# Altium integrated library TI Power Management Linear Regulator Single Channel LDO (400-7500mA).IntLib: 1408 symbols (part 48 of 60)
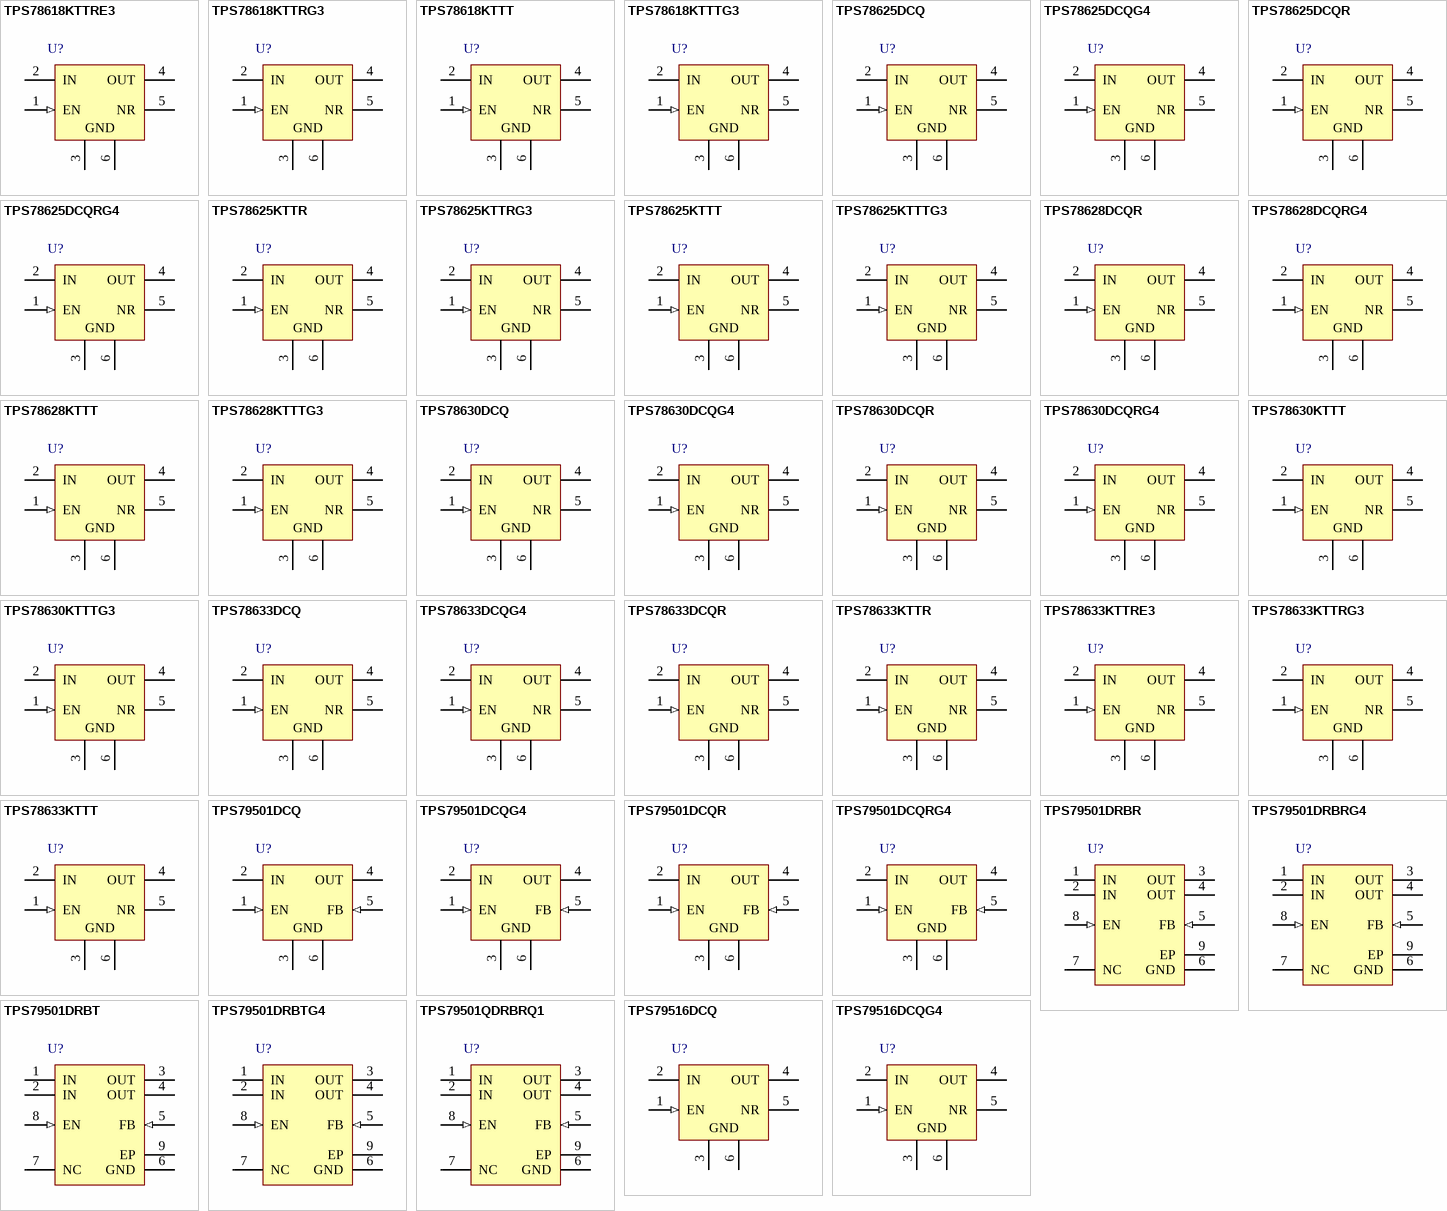
[diagram p97: symbols TPS78618KTTRE3 to TPS79516DCQG4]

## TPS78633KTTR
designator U?
Single Output High PSRR LDO, 1.5 A, Fixed 3.3 V Output, 2.7 to 5.5 V Input, 5-pin DDPAK (KTT), -40 to 125 degC, Green (RoHS & no Sb/Br); Manufacturer: Texas Instruments; PartNumber: TPS78633KTTR; Accuracy(%): 3; Fixed Output Options(V): 3.3; Iout(Max)(A): 1.5; Iq(Typ)(mA): 0.02; SubFamily: Single Channel LDO; Vdo(Typ)(mV): 340; Vin(Max)(V): 5.5; Vin(Min)(V): 2.7; DatasheetVersion: SLVS389L; PackageVersion: 4200577-3/F; PackageReference: KTT5; PackageDescription: 3-Pin Plastic Flange Mount, Body 10.16 x 10.34 mm, Pitch 1.7 mm; Supplier 1: Digi-Key; Supplier Part Number 1: TPS78633KTTR-ND; Supplier 2: Newark; Supplier Part Number 2: 87H3011; Supplier 3: Mouser; Supplier Part Number 3: 595-TPS78633KTTR; Eco-Plan: Green (RoHS & no Sb/Br); Vout Adj(Max)(V): 3.3; Vout Adj(Min)(V): 3.3; Mounting Technology: Surface Mount; Code_JEDEC: TO-263; ComponentLink1Description: Manufacturer URL; ComponentLink1URL: http://www.ti.com/; ComponentLink2Description: Datasheet; ComponentLink2URL: http://www.ti.com/general/docs/lit/getliterature.tsp?genericPartNumber=TPS78633&fileType=pdf; ComponentLink3Description: Package Specification; ComponentLink3URL: http://www.ti.com/litv/pdf/mpsf007e
footprint TI-KTT5_N (DPAK, 5-Leads, Body 10.16x8.925mm, Pitch 1.7mm, IPC Medium Density)
footprint TI-KTT5_L (DPAK, 5-Leads, Body 10.16x8.925mm, Pitch 1.7mm, IPC High Density)
footprint TI-KTT5_M (DPAK, 5-Leads, Body 10.16x8.925mm, Pitch 1.7mm, IPC Low Density)
pins: 1 EN (in) "The EN terminal is an input that enables or shuts down the device. When EN is a logic high, the device is enabled. When the device is a logic low, the device is in shutdown mode.", 2 IN (power) "Unregulated input to the device.", 3 GND (power) "Regulator ground", 4 OUT (power) "Regulator output", 5 NR "Connecting an external capacitor to this pin bypasses noise generated by the internal bandgap, which improves power-supply rejection and reduces output noise.", 6 GND (power) "Regulator ground"

## TPS78633KTTRE3
designator U?
Single Output High PSRR LDO, 1.5 A, Fixed 3.3 V Output, 2.7 to 5.5 V Input, 5-pin DDPAK (KTT), -40 to 125 degC, Green (RoHS & no Sb/Br); Manufacturer: Texas Instruments; PartNumber: TPS78633KTTRE3; Accuracy(%): 3; Fixed Output Options(V): 3.3; Iout(Max)(A): 1.5; Iq(Typ)(mA): 0.02; SubFamily: Single Channel LDO; Vdo(Typ)(mV): 340; Vin(Max)(V): 5.5; Vin(Min)(V): 2.7; DatasheetVersion: SLVS389L; PackageVersion: 4200577-3/F; PackageReference: KTT5; PackageDescription: 3-Pin Plastic Flange Mount, Body 10.16 x 10.34 mm, Pitch 1.7 mm; Supplier 1: Digi-Key; Supplier Part Number 1: TPS78633KTTRE3-ND; Supplier 2: Newark; Supplier Part Number 2: 24K6200; Supplier 3: Mouser; Supplier Part Number 3: 595-TPS78633KTTRE3; Eco-Plan: Green (RoHS & no Sb/Br); Vout Adj(Max)(V): 3.3; Vout Adj(Min)(V): 3.3; Mounting Technology: Surface Mount; Code_JEDEC: TO-263; ComponentLink1Description: Manufacturer URL; ComponentLink1URL: http://www.ti.com/; ComponentLink2Description: Datasheet; ComponentLink2URL: http://www.ti.com/general/docs/lit/getliterature.tsp?genericPartNumber=TPS78633&fileType=pdf; ComponentLink3Description: Package Specification; ComponentLink3URL: http://www.ti.com/litv/pdf/mpsf007e
footprint TI-KTT5_N (DPAK, 5-Leads, Body 10.16x8.925mm, Pitch 1.7mm, IPC Medium Density)
footprint TI-KTT5_L (DPAK, 5-Leads, Body 10.16x8.925mm, Pitch 1.7mm, IPC High Density)
footprint TI-KTT5_M (DPAK, 5-Leads, Body 10.16x8.925mm, Pitch 1.7mm, IPC Low Density)
pins: 1 EN (in) "The EN terminal is an input that enables or shuts down the device. When EN is a logic high, the device is enabled. When the device is a logic low, the device is in shutdown mode.", 2 IN (power) "Unregulated input to the device.", 3 GND (power) "Regulator ground", 4 OUT (power) "Regulator output", 5 NR "Connecting an external capacitor to this pin bypasses noise generated by the internal bandgap, which improves power-supply rejection and reduces output noise.", 6 GND (power) "Regulator ground"

## TPS78633KTTRG3
designator U?
Single Output High PSRR LDO, 1.5 A, Fixed 3.3 V Output, 2.7 to 5.5 V Input, 5-pin DDPAK (KTT), -40 to 125 degC, Green (RoHS & no Sb/Br); Manufacturer: Texas Instruments; PartNumber: TPS78633KTTRG3; Accuracy(%): 3; Fixed Output Options(V): 3.3; Iout(Max)(A): 1.5; Iq(Typ)(mA): 0.02; SubFamily: Single Channel LDO; Vdo(Typ)(mV): 340; Vin(Max)(V): 5.5; Vin(Min)(V): 2.7; DatasheetVersion: SLVS389L; PackageVersion: 4200577-3/F; PackageReference: KTT5; PackageDescription: 3-Pin Plastic Flange Mount, Body 10.16 x 10.34 mm, Pitch 1.7 mm; Supplier 1: Digi-Key; Supplier Part Number 1: TPS78633KTTRG3-ND; Supplier 2: Newark; Supplier Part Number 2: 24K6201; Supplier 3: Mouser; Supplier Part Number 3: 595-TPS78633KTTRG3; Eco-Plan: Green (RoHS & no Sb/Br); Vout Adj(Max)(V): 3.3; Vout Adj(Min)(V): 3.3; Mounting Technology: Surface Mount; Code_JEDEC: TO-263; ComponentLink1Description: Manufacturer URL; ComponentLink1URL: http://www.ti.com/; ComponentLink2Description: Datasheet; ComponentLink2URL: http://www.ti.com/general/docs/lit/getliterature.tsp?genericPartNumber=TPS78633&fileType=pdf; ComponentLink3Description: Package Specification; ComponentLink3URL: http://www.ti.com/litv/pdf/mpsf007e
footprint TI-KTT5_N (DPAK, 5-Leads, Body 10.16x8.925mm, Pitch 1.7mm, IPC Medium Density)
footprint TI-KTT5_L (DPAK, 5-Leads, Body 10.16x8.925mm, Pitch 1.7mm, IPC High Density)
footprint TI-KTT5_M (DPAK, 5-Leads, Body 10.16x8.925mm, Pitch 1.7mm, IPC Low Density)
pins: 1 EN (in) "The EN terminal is an input that enables or shuts down the device. When EN is a logic high, the device is enabled. When the device is a logic low, the device is in shutdown mode.", 2 IN (power) "Unregulated input to the device.", 3 GND (power) "Regulator ground", 4 OUT (power) "Regulator output", 5 NR "Connecting an external capacitor to this pin bypasses noise generated by the internal bandgap, which improves power-supply rejection and reduces output noise.", 6 GND (power) "Regulator ground"

## TPS78633KTTT
designator U?
Single Output High PSRR LDO, 1.5 A, Fixed 3.3 V Output, 2.7 to 5.5 V Input, 5-pin DDPAK (KTT), -40 to 125 degC, Green (RoHS & no Sb/Br); Manufacturer: Texas Instruments; PartNumber: TPS78633KTTT; Accuracy(%): 3; Fixed Output Options(V): 3.3; Iout(Max)(A): 1.5; Iq(Typ)(mA): 0.02; SubFamily: Single Channel LDO; Vdo(Typ)(mV): 340; Vin(Max)(V): 5.5; Vin(Min)(V): 2.7; DatasheetVersion: SLVS389L; PackageVersion: 4200577-3/F; PackageReference: KTT5; PackageDescription: 3-Pin Plastic Flange Mount, Body 10.16 x 10.34 mm, Pitch 1.7 mm; Supplier 1: Digi-Key; Supplier Part Number 1: 296-14426-2-ND; Supplier 2: Digi-Key; Supplier Part Number 2: 296-14426-1-ND; Supplier 3: Digi-Key; Supplier Part Number 3: 296-14426-6-ND; Supplier 4: Farnell; Supplier Part Number 4: 1470472RL; Supplier 5: Farnell; Supplier Part Number 5: 1470472; Supplier 6: Newark; Supplier Part Number 6: 32H6585; Supplier 7: Mouser; Supplier Part Number 7: 595-TPS78633KTTT; Eco-Plan: Green (RoHS & no Sb/Br); Vout Adj(Max)(V): 3.3; Vout Adj(Min)(V): 3.3; Mounting Technology: Surface Mount; Code_JEDEC: TO-263; ComponentLink1Description: Manufacturer URL; ComponentLink1URL: http://www.ti.com/; ComponentLink2Description: Datasheet; ComponentLink2URL: http://www.ti.com/general/docs/lit/getliterature.tsp?genericPartNumber=TPS78633&fileType=pdf; ComponentLink3Description: Package Specification; ComponentLink3URL: http://www.ti.com/litv/pdf/mpsf007e
footprint TI-KTT5_N (DPAK, 5-Leads, Body 10.16x8.925mm, Pitch 1.7mm, IPC Medium Density)
footprint TI-KTT5_L (DPAK, 5-Leads, Body 10.16x8.925mm, Pitch 1.7mm, IPC High Density)
footprint TI-KTT5_M (DPAK, 5-Leads, Body 10.16x8.925mm, Pitch 1.7mm, IPC Low Density)
pins: 1 EN (in) "The EN terminal is an input that enables or shuts down the device. When EN is a logic high, the device is enabled. When the device is a logic low, the device is in shutdown mode.", 2 IN (power) "Unregulated input to the device.", 3 GND (power) "Regulator ground", 4 OUT (power) "Regulator output", 5 NR "Connecting an external capacitor to this pin bypasses noise generated by the internal bandgap, which improves power-supply rejection and reduces output noise.", 6 GND (power) "Regulator ground"

## TPS79501DCQ
designator U?
Single Output High PSRR LDO, 500 mA, Adjustable 1.2 to 5.5 V Output, 2.7 to 5.5 V Input, 6-pin SOT-223 (DCQ), -40 to 125 degC, Green (RoHS & no Sb/Br); Manufacturer: Texas Instruments; PartNumber: TPS79501DCQ; Accuracy(%): 2; Iout(Max)(A): 0.5; Iq(Typ)(mA): 0.26; Rating: Catalog; SubFamily: Single Channel LDO; Vdo(Typ)(mV): 110; Vin(Max)(V): 5.5; Vin(Min)(V): 2.7; Vout Adj(Min)(V): 1.2; DatasheetVersion: SLVS350H; PackageVersion: 4202109/D; PackageReference: DCQ6; PackageDescription: 6-Pin Plastic Small Outline, Body 3.5 x 6.5 mm, Pitch 1.27 mm; Supplier 1: Digi-Key; Supplier Part Number 1: 296-27102-5-ND; Supplier 2: Newark; Supplier Part Number 2: 02E7260; Supplier 3: Mouser; Supplier Part Number 3: 595-TPS79501DCQ; Eco-Plan: Green (RoHS & no Sb/Br); Vout Adj(Max)(V): 5.5; Mounting Technology: Surface Mount; ComponentLink1Description: Manufacturer URL; ComponentLink1URL: http://www.ti.com/; ComponentLink2Description: Datasheet; ComponentLink2URL: http://www.ti.com/general/docs/lit/getliterature.tsp?genericPartNumber=TPS79501&fileType=pdf; ComponentLink3Description: Package Specification; ComponentLink3URL: http://www.ti.com/litv/pdf/mpds098c
footprint TI-DCQ6_N (SOT223, 6-Leads, Body 6.5x3.5mm, Pitch 1.27mm, IPC Medium Density)
footprint TI-DCQ6_L (SOT223, 6-Leads, Body 6.5x3.5mm, Pitch 1.27mm, IPC High Density)
footprint TI-DCQ6_M (SOT223, 6-Leads, Body 6.5x3.5mm, Pitch 1.27mm, IPC Low Density)
pins: 1 EN (in) "The EN terminal is an input that enables or shuts down the device. When EN is a logic high, the device is enabled. When the device is a logic low, the device is in shutdown mode.", 2 IN (power) "Unregulated input to the device.", 3 GND (power) "Regulator ground", 4 OUT (power) "Regulator output", 5 FB (in) "Feedback input voltage for the adjustable device.", 6 GND (power) "Regulator ground"

## TPS79501DCQG4
designator U?
Single Output High PSRR LDO, 500 mA, Adjustable 1.2 to 5.5 V Output, 2.7 to 5.5 V Input, 6-pin SOT-223 (DCQ), -40 to 125 degC; Manufacturer: Texas Instruments; PartNumber: TPS79501DCQG4; Accuracy(%): 2; Iout(Max)(A): 0.5; Iq(Typ)(mA): 0.26; Rating: Catalog; SubFamily: Single Channel LDO; Vdo(Typ)(mV): 110; Vin(Max)(V): 5.5; Vin(Min)(V): 2.7; Vout Adj(Min)(V): 1.2; DatasheetVersion: SLVS350H; PackageVersion: 4202109/D; PackageReference: DCQ6; PackageDescription: 6-Pin Plastic Small Outline, Body 3.5 x 6.5 mm, Pitch 1.27 mm; Supplier 1: Digi-Key; Supplier Part Number 1: TPS79501DCQG4-ND; Supplier 2: Farnell; Supplier Part Number 2: 1207353; Supplier 3: Newark; Supplier Part Number 3: 24M8559; Supplier 4: Newark; Supplier Part Number 4: 67K8689; Supplier 5: Mouser; Supplier Part Number 5: 595-TPS79501DCQG4; Vout Adj(Max)(V): 5.5; Mounting Technology: Surface Mount; ComponentLink1Description: Manufacturer URL; ComponentLink1URL: http://www.ti.com/; ComponentLink2Description: Datasheet; ComponentLink2URL: http://www.ti.com/general/docs/lit/getliterature.tsp?genericPartNumber=TPS79501&fileType=pdf; ComponentLink3Description: Package Specification; ComponentLink3URL: http://www.ti.com/litv/pdf/mpds098c
footprint TI-DCQ6_N (SOT223, 6-Leads, Body 6.5x3.5mm, Pitch 1.27mm, IPC Medium Density)
footprint TI-DCQ6_L (SOT223, 6-Leads, Body 6.5x3.5mm, Pitch 1.27mm, IPC High Density)
footprint TI-DCQ6_M (SOT223, 6-Leads, Body 6.5x3.5mm, Pitch 1.27mm, IPC Low Density)
pins: 1 EN (in) "The EN terminal is an input that enables or shuts down the device. When EN is a logic high, the device is enabled. When the device is a logic low, the device is in shutdown mode.", 2 IN (power) "Unregulated input to the device.", 3 GND (power) "Regulator ground", 4 OUT (power) "Regulator output", 5 FB (in) "Feedback input voltage for the adjustable device.", 6 GND (power) "Regulator ground"

## TPS79501DCQR
designator U?
Single Output High PSRR LDO, 500 mA, Adjustable 1.2 to 5.5 V Output, 2.7 to 5.5 V Input, 6-pin SOT-223 (DCQ), -40 to 125 degC, Green (RoHS & no Sb/Br); Manufacturer: Texas Instruments; PartNumber: TPS79501DCQR; Accuracy(%): 2; Iout(Max)(A): 0.5; Iq(Typ)(mA): 0.26; Rating: Catalog; SubFamily: Single Channel LDO; Vdo(Typ)(mV): 110; Vin(Max)(V): 5.5; Vin(Min)(V): 2.7; Vout Adj(Min)(V): 1.2; DatasheetVersion: SLVS350H; PackageVersion: 4202109/D; PackageReference: DCQ6; PackageDescription: 6-Pin Plastic Small Outline, Body 3.5 x 6.5 mm, Pitch 1.27 mm; Supplier 1: Digi-Key; Supplier Part Number 1: 296-13806-2-ND; Supplier 2: Digi-Key; Supplier Part Number 2: 296-13806-1-ND; Supplier 3: Digi-Key; Supplier Part Number 3: 296-13806-6-ND; Supplier 4: Newark; Supplier Part Number 4: 02E7261; Supplier 5: Mouser; Supplier Part Number 5: 595-TPS79501DCQR; Eco-Plan: Green (RoHS & no Sb/Br); Vout Adj(Max)(V): 5.5; Mounting Technology: Surface Mount; ComponentLink1Description: Manufacturer URL; ComponentLink1URL: http://www.ti.com/; ComponentLink2Description: Datasheet; ComponentLink2URL: http://www.ti.com/general/docs/lit/getliterature.tsp?genericPartNumber=TPS79501&fileType=pdf; ComponentLink3Description: Package Specification; ComponentLink3URL: http://www.ti.com/litv/pdf/mpds098c
footprint TI-DCQ6_N (SOT223, 6-Leads, Body 6.5x3.5mm, Pitch 1.27mm, IPC Medium Density)
footprint TI-DCQ6_L (SOT223, 6-Leads, Body 6.5x3.5mm, Pitch 1.27mm, IPC High Density)
footprint TI-DCQ6_M (SOT223, 6-Leads, Body 6.5x3.5mm, Pitch 1.27mm, IPC Low Density)
pins: 1 EN (in) "The EN terminal is an input that enables or shuts down the device. When EN is a logic high, the device is enabled. When the device is a logic low, the device is in shutdown mode.", 2 IN (power) "Unregulated input to the device.", 3 GND (power) "Regulator ground", 4 OUT (power) "Regulator output", 5 FB (in) "Feedback input voltage for the adjustable device.", 6 GND (power) "Regulator ground"

## TPS79501DCQRG4
designator U?
Single Output High PSRR LDO, 500 mA, Adjustable 1.2 to 5.5 V Output, 2.7 to 5.5 V Input, 6-pin SOT-223 (DCQ), -40 to 125 degC; Manufacturer: Texas Instruments; PartNumber: TPS79501DCQRG4; Accuracy(%): 2; Iout(Max)(A): 0.5; Iq(Typ)(mA): 0.26; Rating: Catalog; SubFamily: Single Channel LDO; Vdo(Typ)(mV): 110; Vin(Max)(V): 5.5; Vin(Min)(V): 2.7; Vout Adj(Min)(V): 1.2; DatasheetVersion: SLVS350H; PackageVersion: 4202109/D; PackageReference: DCQ6; PackageDescription: 6-Pin Plastic Small Outline, Body 3.5 x 6.5 mm, Pitch 1.27 mm; Supplier 1: Digi-Key; Supplier Part Number 1: TPS79501DCQRG4-ND; Supplier 2: Newark; Supplier Part Number 2: 24K6219; Supplier 3: Mouser; Supplier Part Number 3: 595-TPS79501DCQRG4; Vout Adj(Max)(V): 5.5; Mounting Technology: Surface Mount; ComponentLink1Description: Manufacturer URL; ComponentLink1URL: http://www.ti.com/; ComponentLink2Description: Datasheet; ComponentLink2URL: http://www.ti.com/general/docs/lit/getliterature.tsp?genericPartNumber=TPS79501&fileType=pdf; ComponentLink3Description: Package Specification; ComponentLink3URL: http://www.ti.com/litv/pdf/mpds098c
footprint TI-DCQ6_N (SOT223, 6-Leads, Body 6.5x3.5mm, Pitch 1.27mm, IPC Medium Density)
footprint TI-DCQ6_L (SOT223, 6-Leads, Body 6.5x3.5mm, Pitch 1.27mm, IPC High Density)
footprint TI-DCQ6_M (SOT223, 6-Leads, Body 6.5x3.5mm, Pitch 1.27mm, IPC Low Density)
pins: 1 EN (in) "The EN terminal is an input that enables or shuts down the device. When EN is a logic high, the device is enabled. When the device is a logic low, the device is in shutdown mode.", 2 IN (power) "Unregulated input to the device.", 3 GND (power) "Regulator ground", 4 OUT (power) "Regulator output", 5 FB (in) "Feedback input voltage for the adjustable device.", 6 GND (power) "Regulator ground"

## TPS79501DRBR
designator U?
Single Output High PSRR LDO, 500 mA, Adjustable 1.2 to 5.5 V Output, 2.7 to 5.5 V Input, 8-pin SON (DRB), -40 to 125 degC, Green (RoHS & no Sb/Br); Manufacturer: Texas Instruments; PartNumber: TPS79501DRBR; Accuracy(%): 2; Iout(Max)(A): 0.5; Iq(Typ)(mA): 0.26; Rating: Catalog; SubFamily: Single Channel LDO; Vdo(Typ)(mV): 110; Vin(Max)(V): 5.5; Vin(Min)(V): 2.7; Vout Adj(Min)(V): 1.2; DatasheetVersion: SLVS350H; PackageVersion: 4203482-2/K; PackageReference: DRB8-2400X1650TP; PackageDescription: 8-Pin Plastic Small Outline, Body 3 x 3 mm, Pitch 0.65 mm; Supplier 1: Digi-Key; Supplier Part Number 1: 296-20792-2-ND; Supplier 2: Digi-Key; Supplier Part Number 2: 296-20792-1-ND; Supplier 3: Digi-Key; Supplier Part Number 3: 296-20792-6-ND; Supplier 4: Newark; Supplier Part Number 4: 18M3242; Supplier 5: Mouser; Supplier Part Number 5: 595-TPS79501DRBR; Eco-Plan: Green (RoHS & no Sb/Br); Vout Adj(Max)(V): 5.5; Mounting Technology: Surface Mount; ComponentLink1Description: Manufacturer URL; ComponentLink1URL: http://www.ti.com/; ComponentLink2Description: Datasheet; ComponentLink2URL: http://www.ti.com/general/docs/lit/getliterature.tsp?genericPartNumber=TPS79501&fileType=pdf; ComponentLink3Description: Package Specification; ComponentLink3URL: http://www.ti.com/litv/pdf/mpds118h
footprint TI-DRB8-2400X1650TP_V (SON, 8-Leads, Body 3x3mm, Pitch 0.65mm, Thermal Pad 2.4x1.65mm)
pins: 1 IN (power) "Unregulated input to the device", 2 IN (power) "Unregulated input to the device", 3 OUT (power) "Regulator output.", 4 OUT (power) "Regulator output.", 5 FB (in) "Feedback input voltage for the adjustable device.", 6 GND (power) "Regulator ground", 7 NC "Not connected", 8 EN (in) "Driving the enable pin (EN) high turns on the regulator. Driving this pin low puts the regulator into shutdown mode. EN can be connected to IN if not used.", 9 EP "Exposed Thermal Pad"

## TPS79501DRBRG4
designator U?
Single Output High PSRR LDO, 500 mA, Adjustable 1.2 to 5.5 V Output, 2.7 to 5.5 V Input, 8-pin SON (DRB), -40 to 125 degC, Green (RoHS & no Sb/Br); Manufacturer: Texas Instruments; PartNumber: TPS79501DRBRG4; Accuracy(%): 2; Iout(Max)(A): 0.5; Iq(Typ)(mA): 0.26; Rating: Catalog; SubFamily: Single Channel LDO; Vdo(Typ)(mV): 110; Vin(Max)(V): 5.5; Vin(Min)(V): 2.7; Vout Adj(Min)(V): 1.2; DatasheetVersion: SLVS350H; PackageVersion: 4203482-2/K; PackageReference: DRB8-2400X1650TP; PackageDescription: 8-Pin Plastic Small Outline, Body 3 x 3 mm, Pitch 0.65 mm; Supplier 1: Digi-Key; Supplier Part Number 1: TPS79501DRBRG4-ND; Supplier 2: Newark; Supplier Part Number 2: 20M5907; Supplier 3: Mouser; Supplier Part Number 3: 595-TPS79501DRBRG4; Eco-Plan: Green (RoHS & no Sb/Br); Vout Adj(Max)(V): 5.5; Mounting Technology: Surface Mount; ComponentLink1Description: Manufacturer URL; ComponentLink1URL: http://www.ti.com/; ComponentLink2Description: Datasheet; ComponentLink2URL: http://www.ti.com/general/docs/lit/getliterature.tsp?genericPartNumber=TPS79501&fileType=pdf; ComponentLink3Description: Package Specification; ComponentLink3URL: http://www.ti.com/litv/pdf/mpds118h
footprint TI-DRB8-2400X1650TP_V (SON, 8-Leads, Body 3x3mm, Pitch 0.65mm, Thermal Pad 2.4x1.65mm)
pins: 1 IN (power) "Unregulated input to the device", 2 IN (power) "Unregulated input to the device", 3 OUT (power) "Regulator output.", 4 OUT (power) "Regulator output.", 5 FB (in) "Feedback input voltage for the adjustable device.", 6 GND (power) "Regulator ground", 7 NC "Not connected", 8 EN (in) "Driving the enable pin (EN) high turns on the regulator. Driving this pin low puts the regulator into shutdown mode. EN can be connected to IN if not used.", 9 EP "Exposed Thermal Pad"

## TPS79501DRBT
designator U?
Single Output High PSRR LDO, 500 mA, Adjustable 1.2 to 5.5 V Output, 2.7 to 5.5 V Input, 8-pin SON (DRB), -40 to 125 degC, Green (RoHS & no Sb/Br); Manufacturer: Texas Instruments; PartNumber: TPS79501DRBT; Accuracy(%): 2; Iout(Max)(A): 0.5; Iq(Typ)(mA): 0.26; Rating: Catalog; SubFamily: Single Channel LDO; Vdo(Typ)(mV): 110; Vin(Max)(V): 5.5; Vin(Min)(V): 2.7; Vout Adj(Min)(V): 1.2; DatasheetVersion: SLVS350H; PackageVersion: 4203482-2/K; PackageReference: DRB8-2400X1650TP; PackageDescription: 8-Pin Plastic Small Outline, Body 3 x 3 mm, Pitch 0.65 mm; Supplier 1: Digi-Key; Supplier Part Number 1: 296-27103-2-ND; Supplier 2: Digi-Key; Supplier Part Number 2: 296-27103-1-ND; Supplier 3: Digi-Key; Supplier Part Number 3: 296-27103-6-ND; Supplier 4: Farnell; Supplier Part Number 4: 2075419; Supplier 5: Newark; Supplier Part Number 5: 82T3180; Supplier 6: Newark; Supplier Part Number 6: 18M3243; Supplier 7: Mouser; Supplier Part Number 7: 595-TPS79501DRBT; Eco-Plan: Green (RoHS & no Sb/Br); Vout Adj(Max)(V): 5.5; Mounting Technology: Surface Mount; ComponentLink1Description: Manufacturer URL; ComponentLink1URL: http://www.ti.com/; ComponentLink2Description: Datasheet; ComponentLink2URL: http://www.ti.com/general/docs/lit/getliterature.tsp?genericPartNumber=TPS79501&fileType=pdf; ComponentLink3Description: Package Specification; ComponentLink3URL: http://www.ti.com/litv/pdf/mpds118h
footprint TI-DRB8-2400X1650TP_V (SON, 8-Leads, Body 3x3mm, Pitch 0.65mm, Thermal Pad 2.4x1.65mm)
pins: 1 IN (power) "Unregulated input to the device", 2 IN (power) "Unregulated input to the device", 3 OUT (power) "Regulator output.", 4 OUT (power) "Regulator output.", 5 FB (in) "Feedback input voltage for the adjustable device.", 6 GND (power) "Regulator ground", 7 NC "Not connected", 8 EN (in) "Driving the enable pin (EN) high turns on the regulator. Driving this pin low puts the regulator into shutdown mode. EN can be connected to IN if not used.", 9 EP "Exposed Thermal Pad"

## TPS79501DRBTG4
designator U?
Single Output High PSRR LDO, 500 mA, Adjustable 1.2 to 5.5 V Output, 2.7 to 5.5 V Input, 8-pin SON (DRB), -40 to 125 degC, Green (RoHS & no Sb/Br); Manufacturer: Texas Instruments; PartNumber: TPS79501DRBTG4; Accuracy(%): 2; Iout(Max)(A): 0.5; Iq(Typ)(mA): 0.26; Rating: Catalog; SubFamily: Single Channel LDO; Vdo(Typ)(mV): 110; Vin(Max)(V): 5.5; Vin(Min)(V): 2.7; Vout Adj(Min)(V): 1.2; DatasheetVersion: SLVS350H; PackageVersion: 4203482-2/K; PackageReference: DRB8-2400X1650TP; PackageDescription: 8-Pin Plastic Small Outline, Body 3 x 3 mm, Pitch 0.65 mm; Supplier 1: Digi-Key; Supplier Part Number 1: TPS79501DRBTG4-ND; Supplier 2: Mouser; Supplier Part Number 2: 595-TPS79501DRBTG4; Eco-Plan: Green (RoHS & no Sb/Br); Vout Adj(Max)(V): 5.5; Mounting Technology: Surface Mount; ComponentLink1Description: Manufacturer URL; ComponentLink1URL: http://www.ti.com/; ComponentLink2Description: Datasheet; ComponentLink2URL: http://www.ti.com/general/docs/lit/getliterature.tsp?genericPartNumber=TPS79501&fileType=pdf; ComponentLink3Description: Package Specification; ComponentLink3URL: http://www.ti.com/litv/pdf/mpds118h
footprint TI-DRB8-2400X1650TP_V (SON, 8-Leads, Body 3x3mm, Pitch 0.65mm, Thermal Pad 2.4x1.65mm)
pins: 1 IN (power) "Unregulated input to the device", 2 IN (power) "Unregulated input to the device", 3 OUT (power) "Regulator output.", 4 OUT (power) "Regulator output.", 5 FB (in) "Feedback input voltage for the adjustable device.", 6 GND (power) "Regulator ground", 7 NC "Not connected", 8 EN (in) "Driving the enable pin (EN) high turns on the regulator. Driving this pin low puts the regulator into shutdown mode. EN can be connected to IN if not used.", 9 EP "Exposed Thermal Pad"

## TPS79501QDRBRQ1
designator U?
Single Output High PSRR LDO, 500 mA, Adjustable 1.2 to 5.5 V Output, 2.7 to 5.5 V Input, 8-pin SON (DRB), -40 to 125 degC, Green (RoHS & no Sb/Br); Manufacturer: Texas Instruments; PartNumber: TPS79501QDRBRQ1; Accuracy(%): 2; Iout(Max)(A): 0.5; Iq(Typ)(mA): 0.26; Rating: Automotive; SubFamily: Single Channel LDO; Vdo(Typ)(mV): 110; Vin(Max)(V): 5.5; Vin(Min)(V): 2.7; Vout Adj(Min)(V): 1.2; DatasheetVersion: SLVSAJ9; PackageVersion: 4203482-2/K; PackageReference: DRB8-2400X1650TP; PackageDescription: 8-Pin Plastic Small Outline, Body 3 x 3 mm, Pitch 0.65 mm; Supplier 1: Digi-Key; Supplier Part Number 1: TPS79501QDRBRQ1-ND; Supplier 2: Newark; Supplier Part Number 2: 13T5969; Supplier 3: Mouser; Supplier Part Number 3: 595-TPS79501QDRBRQ1; Eco-Plan: Green (RoHS & no Sb/Br); Vout Adj(Max)(V): 5.5; Mounting Technology: Surface Mount; ComponentLink1Description: Manufacturer URL; ComponentLink1URL: http://www.ti.com/; ComponentLink2Description: Datasheet; ComponentLink2URL: http://www.ti.com/general/docs/lit/getliterature.tsp?genericPartNumber=TPS79501-Q1&fileType=pdf; ComponentLink3Description: Package Specification; ComponentLink3URL: http://www.ti.com/litv/pdf/mpds118h
footprint TI-DRB8-2400X1650TP_V (SON, 8-Leads, Body 3x3mm, Pitch 0.65mm, Thermal Pad 2.4x1.65mm)
pins: 1 IN (power) "Unregulated input to the device", 2 IN (power) "Unregulated input to the device", 3 OUT (power) "Regulator output.", 4 OUT (power) "Regulator output.", 5 FB (in) "Feedback input voltage for the adjustable device.", 6 GND (power) "Regulator ground", 7 NC "Not connected", 8 EN (in) "Driving the enable pin (EN) high turns on the regulator. Driving this pin low puts the regulator into shutdown mode. EN can be connected to IN if not used.", 9 EP "Exposed Thermal Pad"

## TPS79516DCQ
designator U?
Single Output High PSRR LDO, 500 mA, Fixed 1.6 V Output, 2.7 to 5.5 V Input, 6-pin SOT-223 (DCQ), -40 to 125 degC, Green (RoHS & no Sb/Br); Manufacturer: Texas Instruments; PartNumber: TPS79516DCQ; Accuracy(%): 2; Fixed Output Options(V): 1.6; Iout(Max)(A): 0.5; Iq(Typ)(mA): 0.26; Rating: Catalog; SubFamily: Single Channel LDO; Vdo(Typ)(mV): 110; Vin(Max)(V): 5.5; Vin(Min)(V): 2.7; DatasheetVersion: SLVS350H; PackageVersion: 4202109/D; PackageReference: DCQ6; PackageDescription: 6-Pin Plastic Small Outline, Body 3.5 x 6.5 mm, Pitch 1.27 mm; Supplier 1: Digi-Key; Supplier Part Number 1: 296-34654-5-ND; Supplier 2: Mouser; Supplier Part Number 2: 595-TPS79516DCQ; Eco-Plan: Green (RoHS & no Sb/Br); Vout Adj(Max)(V): 1.6; Vout Adj(Min)(V): 1.6; Mounting Technology: Surface Mount; ComponentLink1Description: Manufacturer URL; ComponentLink1URL: http://www.ti.com/; ComponentLink2Description: Datasheet; ComponentLink2URL: http://www.ti.com/general/docs/lit/getliterature.tsp?genericPartNumber=TPS79516&fileType=pdf; ComponentLink3Description: Package Specification; ComponentLink3URL: http://www.ti.com/litv/pdf/mpds098c
footprint TI-DCQ6_N (SOT223, 6-Leads, Body 6.5x3.5mm, Pitch 1.27mm, IPC Medium Density)
footprint TI-DCQ6_L (SOT223, 6-Leads, Body 6.5x3.5mm, Pitch 1.27mm, IPC High Density)
footprint TI-DCQ6_M (SOT223, 6-Leads, Body 6.5x3.5mm, Pitch 1.27mm, IPC Low Density)
pins: 1 EN (in) "The EN terminal is an input that enables or shuts down the device. When EN is a logic high, the device is enabled. When the device is a logic low, the device is in shutdown mode.", 2 IN (power) "Unregulated input to the device.", 3 GND (power) "Regulator ground", 4 OUT (power) "Regulator output", 5 NR "Connecting an external capacitor to this pin bypasses noise generated by the internal bandgap, which improves power-supply rejection and reduces output noise.", 6 GND (power) "Regulator ground"

## TPS79516DCQG4
designator U?
Single Output High PSRR LDO, 500 mA, Fixed 1.6 V Output, 2.7 to 5.5 V Input, 6-pin SOT-223 (DCQ), -40 to 125 degC, Green (RoHS & no Sb/Br); Manufacturer: Texas Instruments; PartNumber: TPS79516DCQG4; Accuracy(%): 2; Fixed Output Options(V): 1.6; Iout(Max)(A): 0.5; Iq(Typ)(mA): 0.26; Rating: Catalog; SubFamily: Single Channel LDO; Vdo(Typ)(mV): 110; Vin(Max)(V): 5.5; Vin(Min)(V): 2.7; DatasheetVersion: SLVS350H; PackageVersion: 4202109/D; PackageReference: DCQ6; PackageDescription: 6-Pin Plastic Small Outline, Body 3.5 x 6.5 mm, Pitch 1.27 mm; Supplier 1: Digi-Key; Supplier Part Number 1: TPS79516DCQG4-ND; Supplier 2: Newark; Supplier Part Number 2: 41M5915; Supplier 3: Mouser; Supplier Part Number 3: 595-TPS79516DCQG4; Eco-Plan: Green (RoHS & no Sb/Br); Vout Adj(Max)(V): 1.6; Vout Adj(Min)(V): 1.6; Mounting Technology: Surface Mount; ComponentLink1Description: Manufacturer URL; ComponentLink1URL: http://www.ti.com/; ComponentLink2Description: Datasheet; ComponentLink2URL: http://www.ti.com/general/docs/lit/getliterature.tsp?genericPartNumber=TPS79516&fileType=pdf; ComponentLink3Description: Package Specification; ComponentLink3URL: http://www.ti.com/litv/pdf/mpds098c
footprint TI-DCQ6_N (SOT223, 6-Leads, Body 6.5x3.5mm, Pitch 1.27mm, IPC Medium Density)
footprint TI-DCQ6_L (SOT223, 6-Leads, Body 6.5x3.5mm, Pitch 1.27mm, IPC High Density)
footprint TI-DCQ6_M (SOT223, 6-Leads, Body 6.5x3.5mm, Pitch 1.27mm, IPC Low Density)
pins: 1 EN (in) "The EN terminal is an input that enables or shuts down the device. When EN is a logic high, the device is enabled. When the device is a logic low, the device is in shutdown mode.", 2 IN (power) "Unregulated input to the device.", 3 GND (power) "Regulator ground", 4 OUT (power) "Regulator output", 5 NR "Connecting an external capacitor to this pin bypasses noise generated by the internal bandgap, which improves power-supply rejection and reduces output noise.", 6 GND (power) "Regulator ground"

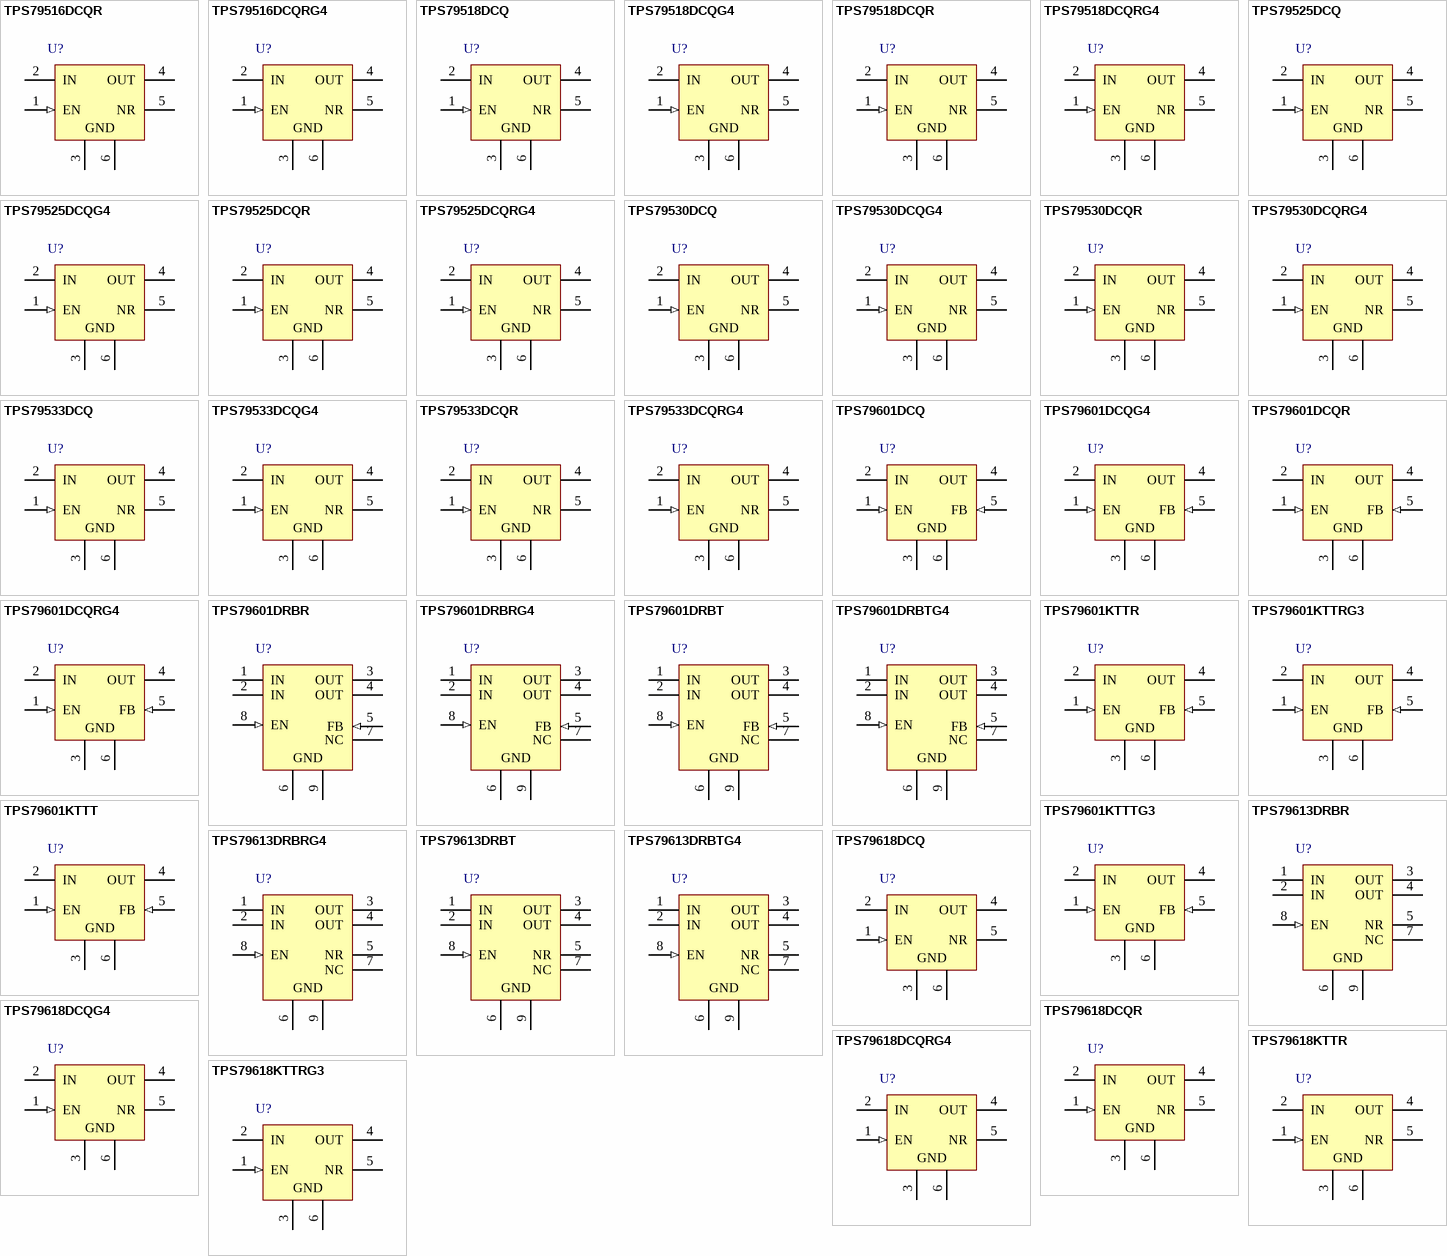
[diagram p42: symbols TPS79516DCQR to TPS79618KTTRG3]

## TPS79516DCQR
designator U?
Single Output High PSRR LDO, 500 mA, Fixed 1.6 V Output, 2.7 to 5.5 V Input, 6-pin SOT-223 (DCQ), -40 to 125 degC, Green (RoHS & no Sb/Br); Manufacturer: Texas Instruments; PartNumber: TPS79516DCQR; Accuracy(%): 2; Fixed Output Options(V): 1.6; Iout(Max)(A): 0.5; Iq(Typ)(mA): 0.26; Rating: Catalog; SubFamily: Single Channel LDO; Vdo(Typ)(mV): 110; Vin(Max)(V): 5.5; Vin(Min)(V): 2.7; DatasheetVersion: SLVS350H; PackageVersion: 4202109/D; PackageReference: DCQ6; PackageDescription: 6-Pin Plastic Small Outline, Body 3.5 x 6.5 mm, Pitch 1.27 mm; Supplier 1: Digi-Key; Supplier Part Number 1: 296-13807-2-ND; Supplier 2: Digi-Key; Supplier Part Number 2: 296-13807-1-ND; Supplier 3: Digi-Key; Supplier Part Number 3: 296-13807-6-ND; Supplier 4: Newark; Supplier Part Number 4: 02E7263; Supplier 5: Mouser; Supplier Part Number 5: 595-TPS79516DCQR; Eco-Plan: Green (RoHS & no Sb/Br); Vout Adj(Max)(V): 1.6; Vout Adj(Min)(V): 1.6; Mounting Technology: Surface Mount; ComponentLink1Description: Manufacturer URL; ComponentLink1URL: http://www.ti.com/; ComponentLink2Description: Datasheet; ComponentLink2URL: http://www.ti.com/general/docs/lit/getliterature.tsp?genericPartNumber=TPS79516&fileType=pdf; ComponentLink3Description: Package Specification; ComponentLink3URL: http://www.ti.com/litv/pdf/mpds098c
footprint TI-DCQ6_N (SOT223, 6-Leads, Body 6.5x3.5mm, Pitch 1.27mm, IPC Medium Density)
footprint TI-DCQ6_L (SOT223, 6-Leads, Body 6.5x3.5mm, Pitch 1.27mm, IPC High Density)
footprint TI-DCQ6_M (SOT223, 6-Leads, Body 6.5x3.5mm, Pitch 1.27mm, IPC Low Density)
pins: 1 EN (in) "The EN terminal is an input that enables or shuts down the device. When EN is a logic high, the device is enabled. When the device is a logic low, the device is in shutdown mode.", 2 IN (power) "Unregulated input to the device.", 3 GND (power) "Regulator ground", 4 OUT (power) "Regulator output", 5 NR "Connecting an external capacitor to this pin bypasses noise generated by the internal bandgap, which improves power-supply rejection and reduces output noise.", 6 GND (power) "Regulator ground"

## TPS79516DCQRG4
designator U?
Single Output High PSRR LDO, 500 mA, Fixed 1.6 V Output, 2.7 to 5.5 V Input, 6-pin SOT-223 (DCQ), -40 to 125 degC, Green (RoHS & no Sb/Br); Manufacturer: Texas Instruments; PartNumber: TPS79516DCQRG4; Accuracy(%): 2; Fixed Output Options(V): 1.6; Iout(Max)(A): 0.5; Iq(Typ)(mA): 0.26; Rating: Catalog; SubFamily: Single Channel LDO; Vdo(Typ)(mV): 110; Vin(Max)(V): 5.5; Vin(Min)(V): 2.7; DatasheetVersion: SLVS350H; PackageVersion: 4202109/D; PackageReference: DCQ6; PackageDescription: 6-Pin Plastic Small Outline, Body 3.5 x 6.5 mm, Pitch 1.27 mm; Supplier 1: Digi-Key; Supplier Part Number 1: TPS79516DCQRG4-ND; Supplier 2: Mouser; Supplier Part Number 2: 595-TPS79516DCQRG4; Eco-Plan: Green (RoHS & no Sb/Br); Vout Adj(Max)(V): 1.6; Vout Adj(Min)(V): 1.6; Mounting Technology: Surface Mount; ComponentLink1Description: Manufacturer URL; ComponentLink1URL: http://www.ti.com/; ComponentLink2Description: Datasheet; ComponentLink2URL: http://www.ti.com/general/docs/lit/getliterature.tsp?genericPartNumber=TPS79516&fileType=pdf; ComponentLink3Description: Package Specification; ComponentLink3URL: http://www.ti.com/litv/pdf/mpds098c
footprint TI-DCQ6_N (SOT223, 6-Leads, Body 6.5x3.5mm, Pitch 1.27mm, IPC Medium Density)
footprint TI-DCQ6_L (SOT223, 6-Leads, Body 6.5x3.5mm, Pitch 1.27mm, IPC High Density)
footprint TI-DCQ6_M (SOT223, 6-Leads, Body 6.5x3.5mm, Pitch 1.27mm, IPC Low Density)
pins: 1 EN (in) "The EN terminal is an input that enables or shuts down the device. When EN is a logic high, the device is enabled. When the device is a logic low, the device is in shutdown mode.", 2 IN (power) "Unregulated input to the device.", 3 GND (power) "Regulator ground", 4 OUT (power) "Regulator output", 5 NR "Connecting an external capacitor to this pin bypasses noise generated by the internal bandgap, which improves power-supply rejection and reduces output noise.", 6 GND (power) "Regulator ground"

## TPS79518DCQ
designator U?
Single Output High PSRR LDO, 500 mA, Fixed 1.8 V Output, 2.7 to 5.5 V Input, 6-pin SOT-223 (DCQ), -40 to 125 degC, Green (RoHS & no Sb/Br); Manufacturer: Texas Instruments; PartNumber: TPS79518DCQ; Accuracy(%): 2; Fixed Output Options(V): 1.8; Iout(Max)(A): 0.5; Iq(Typ)(mA): 0.26; Rating: Catalog; SubFamily: Single Channel LDO; Vdo(Typ)(mV): 110; Vin(Max)(V): 5.5; Vin(Min)(V): 2.7; DatasheetVersion: SLVS350H; PackageVersion: 4202109/D; PackageReference: DCQ6; PackageDescription: 6-Pin Plastic Small Outline, Body 3.5 x 6.5 mm, Pitch 1.27 mm; Supplier 1: Digi-Key; Supplier Part Number 1: 296-27104-5-ND; Supplier 2: Farnell; Supplier Part Number 2: 1412979; Supplier 3: Newark; Supplier Part Number 3: 02E7264; Supplier 4: Mouser; Supplier Part Number 4: 595-TPS79518DCQ; Eco-Plan: Green (RoHS & no Sb/Br); Vout Adj(Max)(V): 1.8; Vout Adj(Min)(V): 1.8; Mounting Technology: Surface Mount; ComponentLink1Description: Manufacturer URL; ComponentLink1URL: http://www.ti.com/; ComponentLink2Description: Datasheet; ComponentLink2URL: http://www.ti.com/general/docs/lit/getliterature.tsp?genericPartNumber=TPS79518&fileType=pdf; ComponentLink3Description: Package Specification; ComponentLink3URL: http://www.ti.com/litv/pdf/mpds098c
footprint TI-DCQ6_N (SOT223, 6-Leads, Body 6.5x3.5mm, Pitch 1.27mm, IPC Medium Density)
footprint TI-DCQ6_L (SOT223, 6-Leads, Body 6.5x3.5mm, Pitch 1.27mm, IPC High Density)
footprint TI-DCQ6_M (SOT223, 6-Leads, Body 6.5x3.5mm, Pitch 1.27mm, IPC Low Density)
pins: 1 EN (in) "The EN terminal is an input that enables or shuts down the device. When EN is a logic high, the device is enabled. When the device is a logic low, the device is in shutdown mode.", 2 IN (power) "Unregulated input to the device.", 3 GND (power) "Regulator ground", 4 OUT (power) "Regulator output", 5 NR "Connecting an external capacitor to this pin bypasses noise generated by the internal bandgap, which improves power-supply rejection and reduces output noise.", 6 GND (power) "Regulator ground"

## TPS79518DCQG4
designator U?
Single Output High PSRR LDO, 500 mA, Fixed 1.8 V Output, 2.7 to 5.5 V Input, 6-pin SOT-223 (DCQ), -40 to 125 degC, Green (RoHS & no Sb/Br); Manufacturer: Texas Instruments; PartNumber: TPS79518DCQG4; Accuracy(%): 2; Fixed Output Options(V): 1.8; Iout(Max)(A): 0.5; Iq(Typ)(mA): 0.26; Rating: Catalog; SubFamily: Single Channel LDO; Vdo(Typ)(mV): 110; Vin(Max)(V): 5.5; Vin(Min)(V): 2.7; DatasheetVersion: SLVS350H; PackageVersion: 4202109/D; PackageReference: DCQ6; PackageDescription: 6-Pin Plastic Small Outline, Body 3.5 x 6.5 mm, Pitch 1.27 mm; Supplier 1: Digi-Key; Supplier Part Number 1: TPS79518DCQG4-ND; Supplier 2: Mouser; Supplier Part Number 2: 595-TPS79518DCQG4; Eco-Plan: Green (RoHS & no Sb/Br); Vout Adj(Max)(V): 1.8; Vout Adj(Min)(V): 1.8; Mounting Technology: Surface Mount; ComponentLink1Description: Manufacturer URL; ComponentLink1URL: http://www.ti.com/; ComponentLink2Description: Datasheet; ComponentLink2URL: http://www.ti.com/general/docs/lit/getliterature.tsp?genericPartNumber=TPS79518&fileType=pdf; ComponentLink3Description: Package Specification; ComponentLink3URL: http://www.ti.com/litv/pdf/mpds098c
footprint TI-DCQ6_N (SOT223, 6-Leads, Body 6.5x3.5mm, Pitch 1.27mm, IPC Medium Density)
footprint TI-DCQ6_L (SOT223, 6-Leads, Body 6.5x3.5mm, Pitch 1.27mm, IPC High Density)
footprint TI-DCQ6_M (SOT223, 6-Leads, Body 6.5x3.5mm, Pitch 1.27mm, IPC Low Density)
pins: 1 EN (in) "The EN terminal is an input that enables or shuts down the device. When EN is a logic high, the device is enabled. When the device is a logic low, the device is in shutdown mode.", 2 IN (power) "Unregulated input to the device.", 3 GND (power) "Regulator ground", 4 OUT (power) "Regulator output", 5 NR "Connecting an external capacitor to this pin bypasses noise generated by the internal bandgap, which improves power-supply rejection and reduces output noise.", 6 GND (power) "Regulator ground"

## TPS79518DCQR
designator U?
Single Output High PSRR LDO, 500 mA, Fixed 1.8 V Output, 2.7 to 5.5 V Input, 6-pin SOT-223 (DCQ), -40 to 125 degC, Green (RoHS & no Sb/Br); Manufacturer: Texas Instruments; PartNumber: TPS79518DCQR; Accuracy(%): 2; Fixed Output Options(V): 1.8; Iout(Max)(A): 0.5; Iq(Typ)(mA): 0.26; Rating: Catalog; SubFamily: Single Channel LDO; Vdo(Typ)(mV): 110; Vin(Max)(V): 5.5; Vin(Min)(V): 2.7; DatasheetVersion: SLVS350H; PackageVersion: 4202109/D; PackageReference: DCQ6; PackageDescription: 6-Pin Plastic Small Outline, Body 3.5 x 6.5 mm, Pitch 1.27 mm; Supplier 1: Digi-Key; Supplier Part Number 1: 296-13808-2-ND; Supplier 2: Digi-Key; Supplier Part Number 2: 296-13808-1-ND; Supplier 3: Digi-Key; Supplier Part Number 3: 296-13808-6-ND; Supplier 4: Newark; Supplier Part Number 4: 02E7265; Supplier 5: Mouser; Supplier Part Number 5: 595-TPS79518DCQR; Eco-Plan: Green (RoHS & no Sb/Br); Vout Adj(Max)(V): 1.8; Vout Adj(Min)(V): 1.8; Mounting Technology: Surface Mount; ComponentLink1Description: Manufacturer URL; ComponentLink1URL: http://www.ti.com/; ComponentLink2Description: Datasheet; ComponentLink2URL: http://www.ti.com/general/docs/lit/getliterature.tsp?genericPartNumber=TPS79518&fileType=pdf; ComponentLink3Description: Package Specification; ComponentLink3URL: http://www.ti.com/litv/pdf/mpds098c
footprint TI-DCQ6_N (SOT223, 6-Leads, Body 6.5x3.5mm, Pitch 1.27mm, IPC Medium Density)
footprint TI-DCQ6_L (SOT223, 6-Leads, Body 6.5x3.5mm, Pitch 1.27mm, IPC High Density)
footprint TI-DCQ6_M (SOT223, 6-Leads, Body 6.5x3.5mm, Pitch 1.27mm, IPC Low Density)
pins: 1 EN (in) "The EN terminal is an input that enables or shuts down the device. When EN is a logic high, the device is enabled. When the device is a logic low, the device is in shutdown mode.", 2 IN (power) "Unregulated input to the device.", 3 GND (power) "Regulator ground", 4 OUT (power) "Regulator output", 5 NR "Connecting an external capacitor to this pin bypasses noise generated by the internal bandgap, which improves power-supply rejection and reduces output noise.", 6 GND (power) "Regulator ground"

## TPS79518DCQRG4
designator U?
Single Output High PSRR LDO, 500 mA, Fixed 1.8 V Output, 2.7 to 5.5 V Input, 6-pin SOT-223 (DCQ), -40 to 125 degC, Green (RoHS & no Sb/Br); Manufacturer: Texas Instruments; PartNumber: TPS79518DCQRG4; Accuracy(%): 2; Fixed Output Options(V): 1.8; Iout(Max)(A): 0.5; Iq(Typ)(mA): 0.26; Rating: Catalog; SubFamily: Single Channel LDO; Vdo(Typ)(mV): 110; Vin(Max)(V): 5.5; Vin(Min)(V): 2.7; DatasheetVersion: SLVS350H; PackageVersion: 4202109/D; PackageReference: DCQ6; PackageDescription: 6-Pin Plastic Small Outline, Body 3.5 x 6.5 mm, Pitch 1.27 mm; Supplier 1: Digi-Key; Supplier Part Number 1: TPS79518DCQRG4-ND; Supplier 2: Newark; Supplier Part Number 2: 40K9777; Supplier 3: Mouser; Supplier Part Number 3: 595-TPS79518DCQRG4; Eco-Plan: Green (RoHS & no Sb/Br); Vout Adj(Max)(V): 1.8; Vout Adj(Min)(V): 1.8; Mounting Technology: Surface Mount; ComponentLink1Description: Manufacturer URL; ComponentLink1URL: http://www.ti.com/; ComponentLink2Description: Datasheet; ComponentLink2URL: http://www.ti.com/general/docs/lit/getliterature.tsp?genericPartNumber=TPS79518&fileType=pdf; ComponentLink3Description: Package Specification; ComponentLink3URL: http://www.ti.com/litv/pdf/mpds098c
footprint TI-DCQ6_N (SOT223, 6-Leads, Body 6.5x3.5mm, Pitch 1.27mm, IPC Medium Density)
footprint TI-DCQ6_L (SOT223, 6-Leads, Body 6.5x3.5mm, Pitch 1.27mm, IPC High Density)
footprint TI-DCQ6_M (SOT223, 6-Leads, Body 6.5x3.5mm, Pitch 1.27mm, IPC Low Density)
pins: 1 EN (in) "The EN terminal is an input that enables or shuts down the device. When EN is a logic high, the device is enabled. When the device is a logic low, the device is in shutdown mode.", 2 IN (power) "Unregulated input to the device.", 3 GND (power) "Regulator ground", 4 OUT (power) "Regulator output", 5 NR "Connecting an external capacitor to this pin bypasses noise generated by the internal bandgap, which improves power-supply rejection and reduces output noise.", 6 GND (power) "Regulator ground"

## TPS79525DCQ
designator U?
Single Output High PSRR LDO, 500 mA, Fixed 2.5 V Output, 2.7 to 5.5 V Input, 6-pin SOT-223 (DCQ), -40 to 125 degC, Green (RoHS & no Sb/Br); Manufacturer: Texas Instruments; PartNumber: TPS79525DCQ; Accuracy(%): 2; Fixed Output Options(V): 2.5; Iout(Max)(A): 0.5; Iq(Typ)(mA): 0.26; Rating: Catalog; SubFamily: Single Channel LDO; Vdo(Typ)(mV): 110; Vin(Max)(V): 5.5; Vin(Min)(V): 2.7; DatasheetVersion: SLVS350H; PackageVersion: 4202109/D; PackageReference: DCQ6; PackageDescription: 6-Pin Plastic Small Outline, Body 3.5 x 6.5 mm, Pitch 1.27 mm; Supplier 1: Digi-Key; Supplier Part Number 1: 296-14753-5-ND; Supplier 2: Newark; Supplier Part Number 2: 32H6603; Supplier 3: Mouser; Supplier Part Number 3: 595-TPS79525DCQ; Eco-Plan: Green (RoHS & no Sb/Br); Vout Adj(Max)(V): 2.5; Vout Adj(Min)(V): 2.5; Mounting Technology: Surface Mount; ComponentLink1Description: Manufacturer URL; ComponentLink1URL: http://www.ti.com/; ComponentLink2Description: Datasheet; ComponentLink2URL: http://www.ti.com/general/docs/lit/getliterature.tsp?genericPartNumber=TPS79525&fileType=pdf; ComponentLink3Description: Package Specification; ComponentLink3URL: http://www.ti.com/litv/pdf/mpds098c
footprint TI-DCQ6_N (SOT223, 6-Leads, Body 6.5x3.5mm, Pitch 1.27mm, IPC Medium Density)
footprint TI-DCQ6_L (SOT223, 6-Leads, Body 6.5x3.5mm, Pitch 1.27mm, IPC High Density)
footprint TI-DCQ6_M (SOT223, 6-Leads, Body 6.5x3.5mm, Pitch 1.27mm, IPC Low Density)
pins: 1 EN (in) "The EN terminal is an input that enables or shuts down the device. When EN is a logic high, the device is enabled. When the device is a logic low, the device is in shutdown mode.", 2 IN (power) "Unregulated input to the device.", 3 GND (power) "Regulator ground", 4 OUT (power) "Regulator output", 5 NR "Connecting an external capacitor to this pin bypasses noise generated by the internal bandgap, which improves power-supply rejection and reduces output noise.", 6 GND (power) "Regulator ground"

## TPS79525DCQG4
designator U?
Single Output High PSRR LDO, 500 mA, Fixed 2.5 V Output, 2.7 to 5.5 V Input, 6-pin SOT-223 (DCQ), -40 to 125 degC, Green (RoHS & no Sb/Br); Manufacturer: Texas Instruments; PartNumber: TPS79525DCQG4; Accuracy(%): 2; Fixed Output Options(V): 2.5; Iout(Max)(A): 0.5; Iq(Typ)(mA): 0.26; Rating: Catalog; SubFamily: Single Channel LDO; Vdo(Typ)(mV): 110; Vin(Max)(V): 5.5; Vin(Min)(V): 2.7; DatasheetVersion: SLVS350H; PackageVersion: 4202109/D; PackageReference: DCQ6; PackageDescription: 6-Pin Plastic Small Outline, Body 3.5 x 6.5 mm, Pitch 1.27 mm; Supplier 1: Digi-Key; Supplier Part Number 1: TPS79525DCQG4-ND; Supplier 2: Farnell; Supplier Part Number 2: 1207354; Supplier 3: Newark; Supplier Part Number 3: 24M8560; Supplier 4: Newark; Supplier Part Number 4: 58K7012; Supplier 5: Mouser; Supplier Part Number 5: 595-TPS79525DCQG4; Eco-Plan: Green (RoHS & no Sb/Br); Vout Adj(Max)(V): 2.5; Vout Adj(Min)(V): 2.5; Mounting Technology: Surface Mount; ComponentLink1Description: Manufacturer URL; ComponentLink1URL: http://www.ti.com/; ComponentLink2Description: Datasheet; ComponentLink2URL: http://www.ti.com/general/docs/lit/getliterature.tsp?genericPartNumber=TPS79525&fileType=pdf; ComponentLink3Description: Package Specification; ComponentLink3URL: http://www.ti.com/litv/pdf/mpds098c
footprint TI-DCQ6_N (SOT223, 6-Leads, Body 6.5x3.5mm, Pitch 1.27mm, IPC Medium Density)
footprint TI-DCQ6_L (SOT223, 6-Leads, Body 6.5x3.5mm, Pitch 1.27mm, IPC High Density)
footprint TI-DCQ6_M (SOT223, 6-Leads, Body 6.5x3.5mm, Pitch 1.27mm, IPC Low Density)
pins: 1 EN (in) "The EN terminal is an input that enables or shuts down the device. When EN is a logic high, the device is enabled. When the device is a logic low, the device is in shutdown mode.", 2 IN (power) "Unregulated input to the device.", 3 GND (power) "Regulator ground", 4 OUT (power) "Regulator output", 5 NR "Connecting an external capacitor to this pin bypasses noise generated by the internal bandgap, which improves power-supply rejection and reduces output noise.", 6 GND (power) "Regulator ground"

## TPS79525DCQR
designator U?
Single Output High PSRR LDO, 500 mA, Fixed 2.5 V Output, 2.7 to 5.5 V Input, 6-pin SOT-223 (DCQ), -40 to 125 degC, Green (RoHS & no Sb/Br); Manufacturer: Texas Instruments; PartNumber: TPS79525DCQR; Accuracy(%): 2; Fixed Output Options(V): 2.5; Iout(Max)(A): 0.5; Iq(Typ)(mA): 0.26; Rating: Catalog; SubFamily: Single Channel LDO; Vdo(Typ)(mV): 110; Vin(Max)(V): 5.5; Vin(Min)(V): 2.7; DatasheetVersion: SLVS350H; PackageVersion: 4202109/D; PackageReference: DCQ6; PackageDescription: 6-Pin Plastic Small Outline, Body 3.5 x 6.5 mm, Pitch 1.27 mm; Supplier 1: Digi-Key; Supplier Part Number 1: TPS79525DCQR-ND; Supplier 2: Newark; Supplier Part Number 2: 32H6604; Supplier 3: Mouser; Supplier Part Number 3: 595-TPS79525DCQR; Eco-Plan: Green (RoHS & no Sb/Br); Vout Adj(Max)(V): 2.5; Vout Adj(Min)(V): 2.5; Mounting Technology: Surface Mount; ComponentLink1Description: Manufacturer URL; ComponentLink1URL: http://www.ti.com/; ComponentLink2Description: Datasheet; ComponentLink2URL: http://www.ti.com/general/docs/lit/getliterature.tsp?genericPartNumber=TPS79525&fileType=pdf; ComponentLink3Description: Package Specification; ComponentLink3URL: http://www.ti.com/litv/pdf/mpds098c
footprint TI-DCQ6_N (SOT223, 6-Leads, Body 6.5x3.5mm, Pitch 1.27mm, IPC Medium Density)
footprint TI-DCQ6_L (SOT223, 6-Leads, Body 6.5x3.5mm, Pitch 1.27mm, IPC High Density)
footprint TI-DCQ6_M (SOT223, 6-Leads, Body 6.5x3.5mm, Pitch 1.27mm, IPC Low Density)
pins: 1 EN (in) "The EN terminal is an input that enables or shuts down the device. When EN is a logic high, the device is enabled. When the device is a logic low, the device is in shutdown mode.", 2 IN (power) "Unregulated input to the device.", 3 GND (power) "Regulator ground", 4 OUT (power) "Regulator output", 5 NR "Connecting an external capacitor to this pin bypasses noise generated by the internal bandgap, which improves power-supply rejection and reduces output noise.", 6 GND (power) "Regulator ground"

## TPS79525DCQRG4
designator U?
Single Output High PSRR LDO, 500 mA, Fixed 2.5 V Output, 2.7 to 5.5 V Input, 6-pin SOT-223 (DCQ), -40 to 125 degC, Green (RoHS & no Sb/Br); Manufacturer: Texas Instruments; PartNumber: TPS79525DCQRG4; Accuracy(%): 2; Fixed Output Options(V): 2.5; Iout(Max)(A): 0.5; Iq(Typ)(mA): 0.26; Rating: Catalog; SubFamily: Single Channel LDO; Vdo(Typ)(mV): 110; Vin(Max)(V): 5.5; Vin(Min)(V): 2.7; DatasheetVersion: SLVS350H; PackageVersion: 4202109/D; PackageReference: DCQ6; PackageDescription: 6-Pin Plastic Small Outline, Body 3.5 x 6.5 mm, Pitch 1.27 mm; Supplier 1: Digi-Key; Supplier Part Number 1: TPS79525DCQRG4-ND; Supplier 2: Newark; Supplier Part Number 2: 58K7013; Supplier 3: Mouser; Supplier Part Number 3: 595-TPS79525DCQRG4; Eco-Plan: Green (RoHS & no Sb/Br); Vout Adj(Max)(V): 2.5; Vout Adj(Min)(V): 2.5; Mounting Technology: Surface Mount; ComponentLink1Description: Manufacturer URL; ComponentLink1URL: http://www.ti.com/; ComponentLink2Description: Datasheet; ComponentLink2URL: http://www.ti.com/general/docs/lit/getliterature.tsp?genericPartNumber=TPS79525&fileType=pdf; ComponentLink3Description: Package Specification; ComponentLink3URL: http://www.ti.com/litv/pdf/mpds098c
footprint TI-DCQ6_N (SOT223, 6-Leads, Body 6.5x3.5mm, Pitch 1.27mm, IPC Medium Density)
footprint TI-DCQ6_L (SOT223, 6-Leads, Body 6.5x3.5mm, Pitch 1.27mm, IPC High Density)
footprint TI-DCQ6_M (SOT223, 6-Leads, Body 6.5x3.5mm, Pitch 1.27mm, IPC Low Density)
pins: 1 EN (in) "The EN terminal is an input that enables or shuts down the device. When EN is a logic high, the device is enabled. When the device is a logic low, the device is in shutdown mode.", 2 IN (power) "Unregulated input to the device.", 3 GND (power) "Regulator ground", 4 OUT (power) "Regulator output", 5 NR "Connecting an external capacitor to this pin bypasses noise generated by the internal bandgap, which improves power-supply rejection and reduces output noise.", 6 GND (power) "Regulator ground"